# Altium schematic symbol library STeRG-ICs-Standard.SchLib: 50 symbols (part 2 of 2)
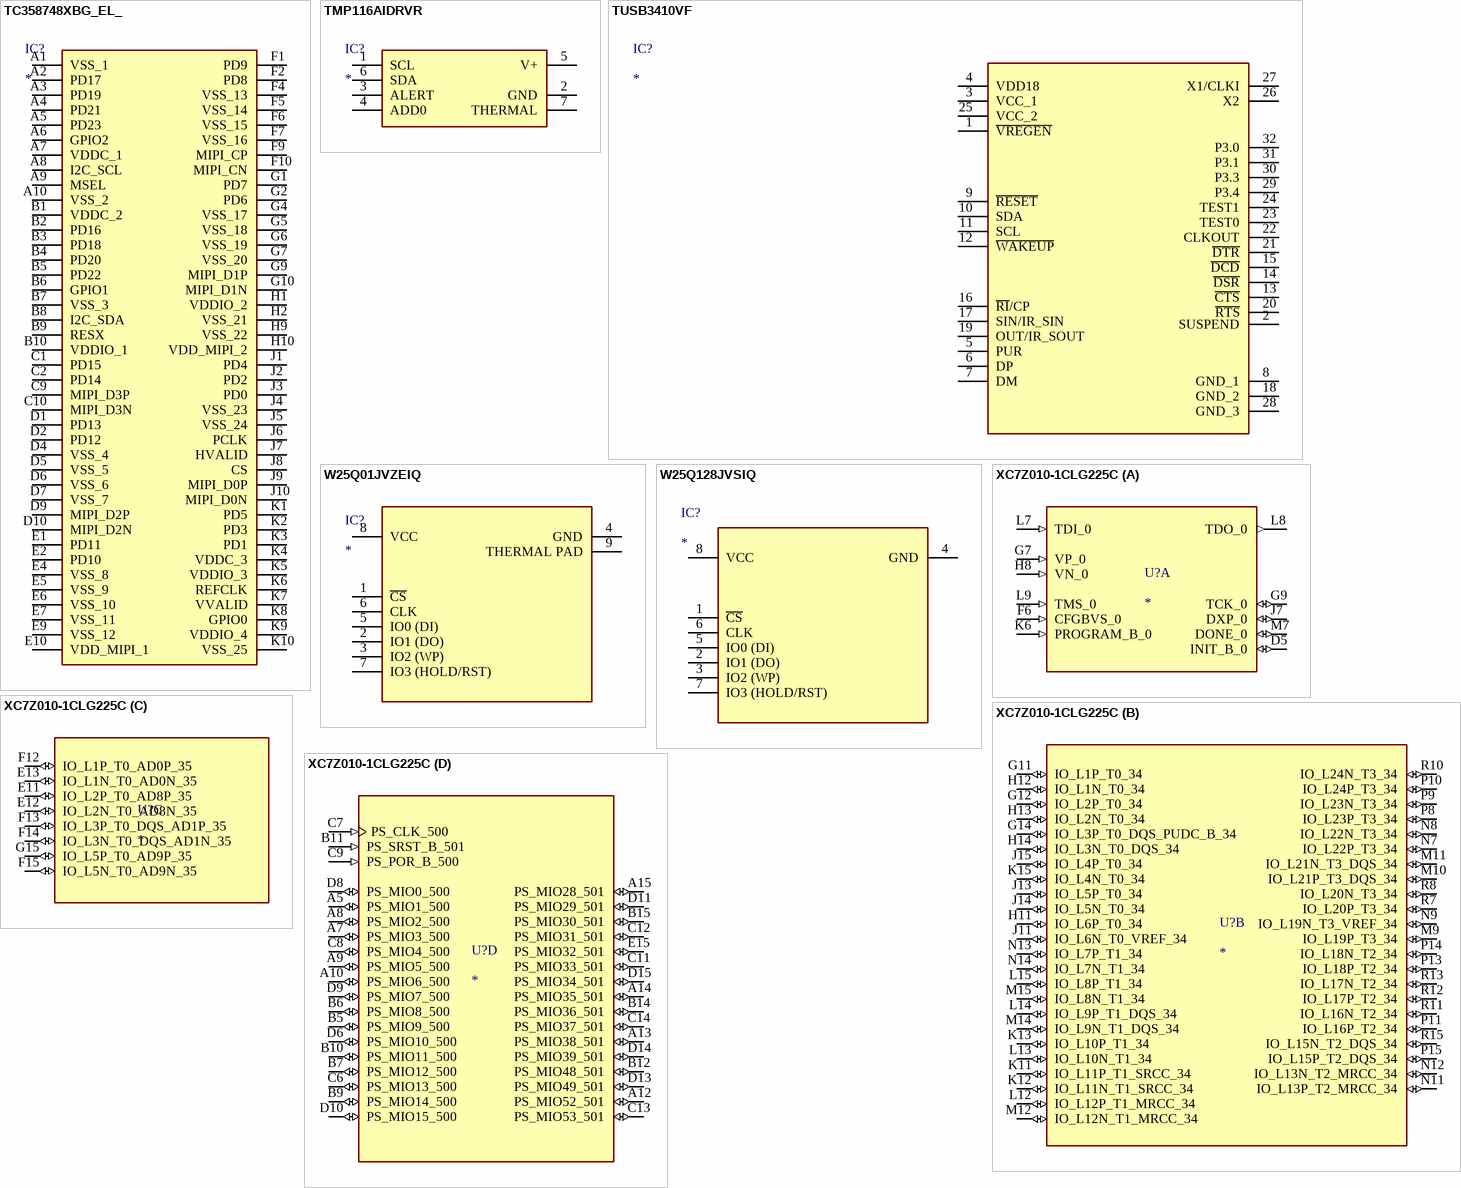
[diagram p9: symbols TC358748XBG_EL_ to XC7Z010-1CLG225C]

## W25Q01JVZEIQ
designator IC?
Integrated Circuit; Manufacturer_Name: Winbond; Manufacturer_Part_Number: W25Q01JVZEIQ; Datasheet Link: https://www.winbond.com/hq/search-resource-file.jsp?partNo=W25Q01JVZEIQ&type=datasheet; Height: 0.8mm; Mouser Part Number: 454-W25Q01JVZEIQ; Mouser Price/Stock: https://www.mouser.co.uk/ProductDetail/Winbond/W25Q01JVZEIQ?qs=YwPsRIUVAOcr57sw9ZL5fQ%3D%3D; Arrow Part Number: W25Q01JVZEIQ; Arrow Price/Stock: https://www.arrow.com/en/products/w25q01jvzeiq/winbond-electronics?region=nac
footprint SON127P800X600X80-9N-D
pins: 1 ~{CS}, 2 IO1 (DO), 3 IO2 (WP), 4 GND, 5 IO0 (DI), 6 CLK, 7 IO3 (HOLD/RST), 8 VCC, 9 THERMAL PAD

## W25Q128JVSIQ
designator IC?
Integrated Circuit; Manufacturer_Name: Winbond; Manufacturer_Part_Number: W25Q128JVSIQ; Datasheet Link: https://www.winbond.com/hq/search-resource-file.jsp?partNo=W25Q128JVSIQ&type=datasheet; Height: 2.16mm; Mouser Part Number: 454-W25Q128JVSIQ; Mouser Price/Stock: https://www.mouser.co.uk/ProductDetail/Winbond/W25Q128JVSIQ?qs=qSfuJ%252Bfl%2Fd6tLXvPR4fl9w%3D%3D; Arrow Part Number: W25Q128JVSIQ; Arrow Price/Stock: https://www.arrow.com/en/products/w25q128jvsiq/winbond-electronics?utm_currency=USD&region=nac
footprint SOIC127P790X216-8N
pins: 1 ~{CS}, 2 IO1 (DO), 3 IO2 (WP), 4 GND, 5 IO0 (DI), 6 CLK, 7 IO3 (HOLD/RST), 8 VCC

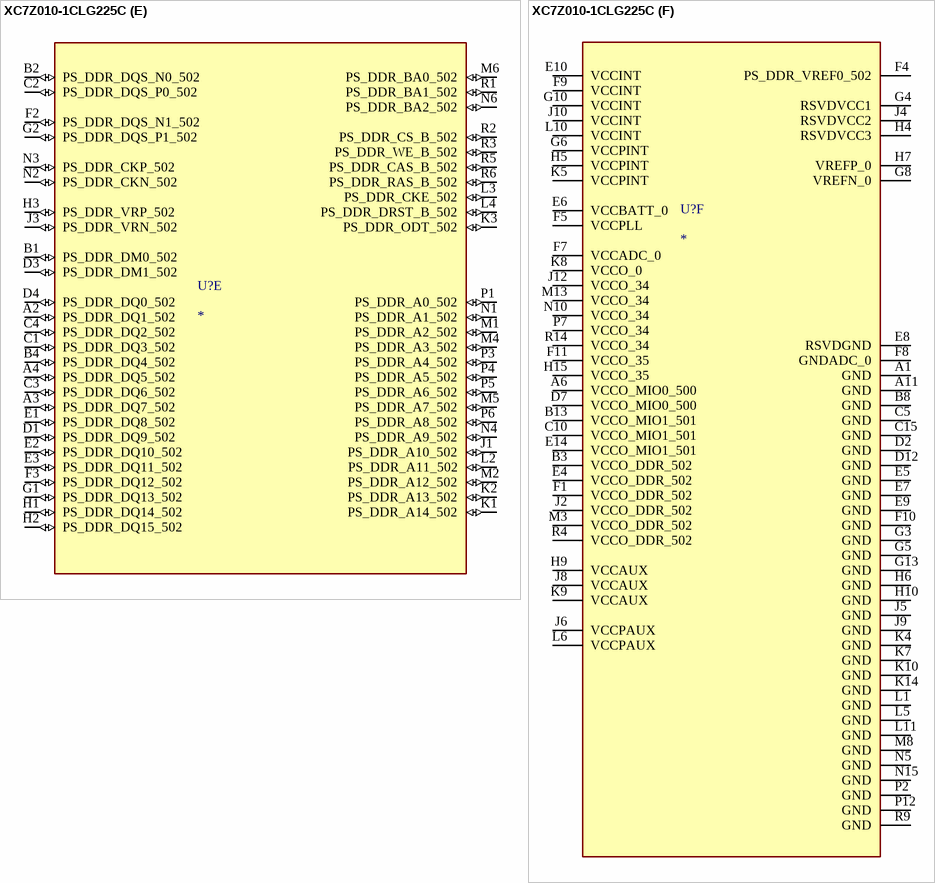
[diagram p8: symbol XC7Z010-1CLG225C]

## XC7Z010-1CLG225C
designator U?
Dual ARMÂ® CortexÂ®-A9 MPCoreâ„¢ with CoreSightâ„¢ System On Chip (SOC) IC ZynqÂ®-7000 Artixâ„¢-7 FPGA, 28K Logic Cells 667MHz 225-CSPBGA (13x13); MF: Xilinx Inc.; MP: XC7Z010-1CLG225C; SnapEDA_Link: https://www.snapeda.com/parts/XC7Z010-1CLG225C/Xilinx/view-part/?ref=snap; Package: CSPBGA-225 Xilinx; Value: *; Check_prices: https://www.snapeda.com/parts/XC7Z010-1CLG225C/Xilinx/view-part/?ref=eda
footprint BGA225C80P15X15_1300X1300X150
part A pins: D5 INIT_B_0 (io), F6 CFGBVS_0 (in), G7 VP_0 (in), G9 TCK_0 (io), H8 VN_0 (in), J7 DXP_0 (io), K6 PROGRAM_B_0 (in), L7 TDI_0 (in), L8 TDO_0 (out), L9 TMS_0 (in), M7 DONE_0 (io)
part B pins: G11 IO_L1P_T0_34 (io), G12 IO_L2P_T0_34 (io), G14 IO_L3P_T0_DQS_PUDC_B_34 (io), H11 IO_L6P_T0_34 (io), H12 IO_L1N_T0_34 (io), H13 IO_L2N_T0_34 (io), H14 IO_L3N_T0_DQS_34 (io), J11 IO_L6N_T0_VREF_34 (io), J13 IO_L5P_T0_34 (io), J14 IO_L5N_T0_34 (io), J15 IO_L4P_T0_34 (io), K11 IO_L11P_T1_SRCC_34 (io), K12 IO_L11N_T1_SRCC_34 (io), K13 IO_L10P_T1_34 (io), K15 IO_L4N_T0_34 (io), L12 IO_L12P_T1_MRCC_34 (io), L13 IO_L10N_T1_34 (io), L14 IO_L9P_T1_DQS_34 (io), L15 IO_L8P_T1_34 (io), M9 IO_L19P_T3_34 (io), M10 IO_L21P_T3_DQS_34 (io), M11 IO_L21N_T3_DQS_34 (io), M12 IO_L12N_T1_MRCC_34 (io), M14 IO_L9N_T1_DQS_34 (io), M15 IO_L8N_T1_34 (io), N7 IO_L22P_T3_34 (io), N8 IO_L22N_T3_34 (io), N9 IO_L19N_T3_VREF_34 (io), N11 IO_L13P_T2_MRCC_34 (io), N12 IO_L13N_T2_MRCC_34 (io), N13 IO_L7P_T1_34 (io), N14 IO_L7N_T1_34 (io), P8 IO_L23P_T3_34 (io), P9 IO_L23N_T3_34 (io), P10 IO_L24P_T3_34 (io), P11 IO_L16P_T2_34 (io), P13 IO_L18P_T2_34 (io), P14 IO_L18N_T2_34 (io), P15 IO_L15P_T2_DQS_34 (io), R7 IO_L20P_T3_34 (io), R8 IO_L20N_T3_34 (io), R10 IO_L24N_T3_34 (io), R11 IO_L16N_T2_34 (io), R12 IO_L17P_T2_34 (io), R13 IO_L17N_T2_34 (io), R15 IO_L15N_T2_DQS_34 (io)
part C pins: E11 IO_L2P_T0_AD8P_35 (io), E12 IO_L2N_T0_AD8N_35 (io), E13 IO_L1N_T0_AD0N_35 (io), F12 IO_L1P_T0_AD0P_35 (io), F13 IO_L3P_T0_DQS_AD1P_35 (io), F14 IO_L3N_T0_DQS_AD1N_35 (io), F15 IO_L5N_T0_AD9N_35 (io), G15 IO_L5P_T0_AD9P_35 (io)
part D pins: A5 PS_MIO1_500 (io), A7 PS_MIO3_500 (io), A8 PS_MIO2_500 (io), A9 PS_MIO5_500 (io), A10 PS_MIO6_500 (io), A12 PS_MIO52_501 (io), A13 PS_MIO38_501 (io), A14 PS_MIO35_501 (io), A15 PS_MIO28_501 (io), B5 PS_MIO9_500 (io), B6 PS_MIO8_500 (io), B7 PS_MIO12_500 (io), B9 PS_MIO14_500 (io), B10 PS_MIO11_500 (io), B11 PS_SRST_B_501 (in), B12 PS_MIO48_501 (io), B14 PS_MIO36_501 (io), B15 PS_MIO30_501 (io), C6 PS_MIO13_500 (io), C7 PS_CLK_500 (in), C8 PS_MIO4_500 (io), C9 PS_POR_B_500 (in), C11 PS_MIO33_501 (io), C12 PS_MIO31_501 (io), C13 PS_MIO53_501 (io), C14 PS_MIO37_501 (io), D6 PS_MIO10_500 (io), D8 PS_MIO0_500 (io), D9 PS_MIO7_500 (io), D10 PS_MIO15_500 (io), D11 PS_MIO29_501 (io), D13 PS_MIO49_501 (io), D14 PS_MIO39_501 (io), D15 PS_MIO34_501 (io), E15 PS_MIO32_501 (io)
part E pins: A2 PS_DDR_DQ1_502 (io), A3 PS_DDR_DQ7_502 (io), A4 PS_DDR_DQ5_502 (io), B1 PS_DDR_DM0_502 (io), B2 PS_DDR_DQS_N0_502 (io), B4 PS_DDR_DQ4_502 (io), C1 PS_DDR_DQ3_502 (io), C2 PS_DDR_DQS_P0_502 (io), C3 PS_DDR_DQ6_502 (io), C4 PS_DDR_DQ2_502 (io), D1 PS_DDR_DQ9_502 (io), D3 PS_DDR_DM1_502 (io), D4 PS_DDR_DQ0_502 (io), E1 PS_DDR_DQ8_502 (io), E2 PS_DDR_DQ10_502 (io), E3 PS_DDR_DQ11_502 (io), F2 PS_DDR_DQS_N1_502 (io), F3 PS_DDR_DQ12_502 (io), G1 PS_DDR_DQ13_502 (io), G2 PS_DDR_DQS_P1_502 (io), H1 PS_DDR_DQ14_502 (io), H2 PS_DDR_DQ15_502 (io), H3 PS_DDR_VRP_502 (io), J1 PS_DDR_A10_502 (io), J3 PS_DDR_VRN_502 (io), K1 PS_DDR_A14_502 (io), K2 PS_DDR_A13_502 (io), K3 PS_DDR_ODT_502 (io), L2 PS_DDR_A11_502 (io), L3 PS_DDR_CKE_502 (io), L4 PS_DDR_DRST_B_502 (io), M1 PS_DDR_A2_502 (io), M2 PS_DDR_A12_502 (io), M4 PS_DDR_A3_502 (io), M5 PS_DDR_A7_502 (io), M6 PS_DDR_BA0_502 (io), N1 PS_DDR_A1_502 (io), N2 PS_DDR_CKN_502 (io), N3 PS_DDR_CKP_502 (io), N4 PS_DDR_A9_502 (io), N6 PS_DDR_BA2_502 (io), P1 PS_DDR_A0_502 (io), P3 PS_DDR_A4_502 (io), P4 PS_DDR_A5_502 (io), P5 PS_DDR_A6_502 (io), P6 PS_DDR_A8_502 (io), R1 PS_DDR_BA1_502 (io), R2 PS_DDR_CS_B_502 (io), R3 PS_DDR_WE_B_502 (io), R5 PS_DDR_CAS_B_502 (io), R6 PS_DDR_RAS_B_502 (io)
part F pins: A1 GND (power), A6 VCCO_MIO0_500 (power), A11 GND (power), B3 VCCO_DDR_502 (power), B8 GND (power), B13 VCCO_MIO1_501 (power), C5 GND (power), C10 VCCO_MIO1_501 (power), C15 GND (power), D2 GND (power), D7 VCCO_MIO0_500 (power), D12 GND (power), E4 VCCO_DDR_502 (power), E5 GND (power), E6 VCCBATT_0 (power), E7 GND (power), E8 RSVDGND (power), E9 GND (power), E10 VCCINT (power), E14 VCCO_MIO1_501 (power), F1 VCCO_DDR_502 (power), F4 PS_DDR_VREF0_502 (power), F5 VCCPLL (power), F7 VCCADC_0 (power), F8 GNDADC_0 (power), F9 VCCINT (power), F10 GND (power), F11 VCCO_35 (power), G3 GND (power), G4 RSVDVCC1 (power), G5 GND (power), G6 VCCPINT (power), G8 VREFN_0 (power), G10 VCCINT (power), G13 GND (power), H4 RSVDVCC3 (power), H5 VCCPINT (power), H6 GND (power), H7 VREFP_0 (power), H9 VCCAUX (power), H10 GND (power), H15 VCCO_35 (power), J2 VCCO_DDR_502 (power), J4 RSVDVCC2 (power), J5 GND (power), J6 VCCPAUX (power), J8 VCCAUX (power), J9 GND (power), J10 VCCINT (power), J12 VCCO_34 (power), K4 GND (power), K5 VCCPINT (power), K7 GND (power), K8 VCCO_0 (power), K9 VCCAUX (power), K10 GND (power), K14 GND (power), L1 GND (power), L5 GND (power), L6 VCCPAUX (power), L10 VCCINT (power), L11 GND (power), M3 VCCO_DDR_502 (power), M8 GND (power), M13 VCCO_34 (power), N5 GND (power), N10 VCCO_34 (power), N15 GND (power), P2 GND (power), P7 VCCO_34 (power), P12 GND (power), R4 VCCO_DDR_502 (power), R9 GND (power), R14 VCCO_34 (power)